# Altium integrated library TFT_display_3.5in.IntLib: 1 symbol
Pins are listed as number, name and electrical type; pins without a type are passive.

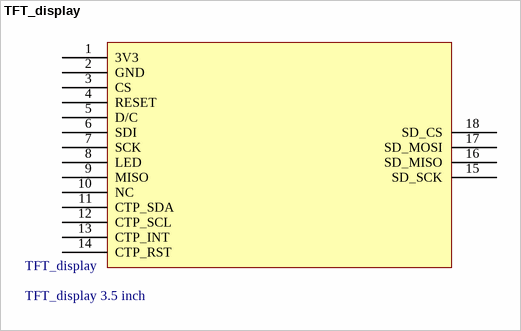
[diagram p0: symbol TFT_display]

## TFT_display
designator TFT_display, comment TFT_display 3.5 inch
footprint TFT_display
pins: 1 3V3, 2 GND, 3 CS, 4 RESET, 5 D/C, 6 SDI, 7 SCK, 8 LED, 9 MISO, 10 NC, 11 CTP_SDA, 12 CTP_SCL, 13 CTP_INT, 14 CTP_RST, 15 SD_SCK, 16 SD_MISO, 17 SD_MOSI, 18 SD_CS